# Altium footprint library STM8 Relatives.PcbLib: 36 footprints (part 3 of 3)
Each footprint in its own frame and in the unit in brackets; x right, y up, seen from the top. Pads: shape width x height; smd on the part's side, far side on the other; paste and mask are expansions set on the pad; w line width, h text height; cw(c..) or ccw(c..) is an arc to the next point about the centre after c.
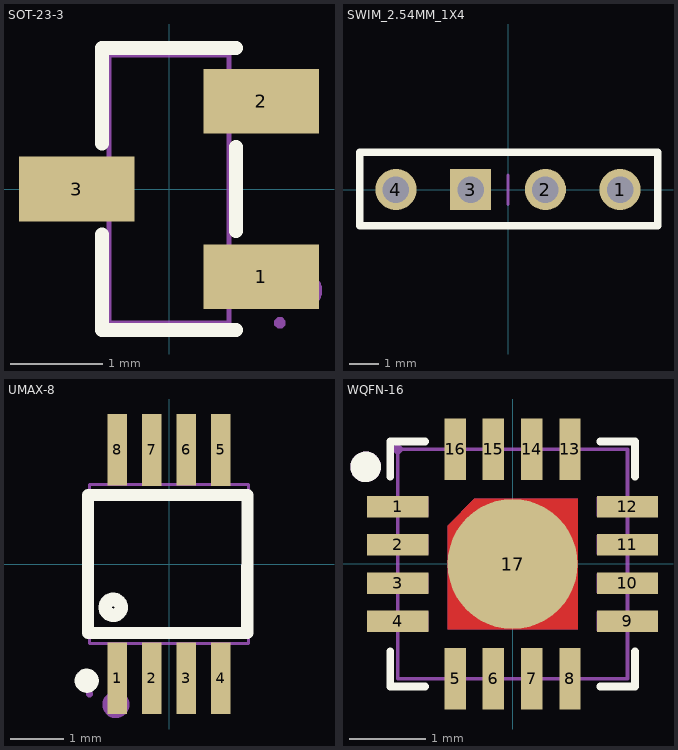
[diagram p2: the footprints below, top view; thin cyan lines are the x and y axes]

## SOT-23-3 [mm]
pads (3):
  rect 1.25x0.7 smd: 1(1,-0.95) 2(1,0.95) 3(-1,0)
Top Overlay:
  lines w0.152: -0.726,-0.495 -0.726,-1.526 0.726,-1.526 ; -0.726,0.495 -0.726,1.526 0.726,1.526 ; 0.726,-0.455 0.726,0.455
Mechanical 6:
  circle w0.2: c1.46,-1.1 r0.1
Mechanical 15:
  region: 1.26,-1.45 1.259,-1.426 1.224,-1.392 1.176,-1.392 1.141,-1.426 1.14,-1.45 1.141,-1.474 1.176,-1.508 1.224,-1.508 1.259,-1.474
  region: 0.64,0.735 0.64,1.165 0.91,1.165 0.91,0.735
  region: 0.9,0.735 0.9,1.165 1.2,1.165 1.2,0.735
  region: 0.64,-1.165 0.64,-0.735 0.91,-0.735 0.91,-1.165
  region: 0.9,-1.165 0.9,-0.735 1.2,-0.735 1.2,-1.165
  region: -0.91,-0.215 -0.91,0.215 -0.64,0.215 -0.64,-0.215
  region: -1.2,-0.215 -1.2,0.215 -0.9,0.215 -0.9,-0.215
  lines w0.051: -0.65,-1.45 -0.65,1.45 0.65,1.45 0.65,-1.45 -0.65,-1.45
3D body "SOT-23-3.step": height 1.45, standoff 0, extent -1.5,-1.575 1.5,1.525

## SWIM_2.54MM_1X4 [mm]
height 1.45
pads (4):
  round 1.4 hole 0.9: 1(3.81,0) 2(1.27,0) 4(-3.81,0)
  rect 1.4x1.4 hole 0.9: 3(-1.27,0)
Top Layer:
  text "SW IM" at -1.524,1.651 h0.76
Top Overlay:
  lines w0.254: -5.04,-1.23 5.09,-1.23 5.09,1.27 -5.04,1.27 -5.04,-1.23
Top Solder:
  text "SW IM" at -1.524,1.651 h0.76
Mechanical 15:
  lines w0.1: -0.5,1.27 0.5,1.27 ; 0,-0.5 0,0.5 ; -5.1,-1.23 5.1,-1.23 5.1,1.27 -5.1,1.27 -5.1,-1.23

## UMAX-8 [mm]
pads (8):
  rect 0.36x1.35 smd: 1(-0.975,-2.15) 2(-0.325,-2.152) 3(0.325,-2.151) 4(0.975,-2.152) 5(0.975,2.149) 6(0.325,2.152) 7(-0.325,2.149) 8(-0.975,2.152)
Top Overlay:
  circle w0.254: c-1.55,-2.2 r0.1
  circle w0.254: c-1.052,-0.817 r0.15
  lines w0.229: -1.524,-1.301 0.976,-1.301 1.476,-1.301 1.476,1.299 -1.524,1.299 -1.524,-0.551 -1.524,-1.301
Mechanical 6:
  circle w0.254: c-1,-2.65 r0.127
Mechanical 15:
  region: -1.128,-2.45 -1.128,-1.915 -0.823,-1.915 -0.823,-2.45
  region: -1.128,-1.925 -1.128,-1.49 -0.823,-1.49 -0.823,-1.925
  region: -1.128,1.915 -1.128,2.45 -0.823,2.45 -0.823,1.915
  region: -1.128,1.49 -1.128,1.925 -0.823,1.925 -0.823,1.49
  region: -0.477,-2.45 -0.477,-1.915 -0.172,-1.915 -0.172,-2.45
  region: -0.477,-1.925 -0.477,-1.49 -0.172,-1.49 -0.172,-1.925
  region: -0.477,1.915 -0.477,2.45 -0.172,2.45 -0.172,1.915
  region: -0.477,1.49 -0.477,1.925 -0.172,1.925 -0.172,1.49
  region: 0.173,-2.45 0.173,-1.915 0.478,-1.915 0.478,-2.45
  region: 0.173,-1.925 0.173,-1.49 0.478,-1.49 0.478,-1.925
  region: 0.172,1.915 0.172,2.45 0.477,2.45 0.477,1.915
  region: 0.172,1.49 0.172,1.925 0.477,1.925 0.477,1.49
  region: 0.823,-2.45 0.823,-1.915 1.128,-1.915 1.128,-2.45
  region: 0.823,-1.925 0.823,-1.49 1.128,-1.49 1.128,-1.925
  region: 0.823,1.915 0.823,2.45 1.128,2.45 1.128,1.915
  region: 0.823,1.49 0.823,1.925 1.128,1.925 1.128,1.49
  region: -1.44,-2.45 -1.441,-2.426 -1.475,-2.391 -1.524,-2.391 -1.559,-2.425 -1.56,-2.45 -1.559,-2.474 -1.525,-2.509 -1.476,-2.509 -1.441,-2.475
  lines w0.051: -1.5,-1.5 -1.5,1.5 1.5,1.5 1.5,-1.5 -1.5,-1.5
3D body "umax8 v0.step": height 1, standoff 0, extent -1.5,-2.601 1.5,2.399

## WQFN-16 [mm]
pads (17):
  rect 0.8x0.28 smd paste-100 mask+0.051: 1(-1.5,0.75) 2(-1.5,0.25) 3(-1.5,-0.25) 4(-1.5,-0.75) 9(1.5,-0.75) 10(1.5,-0.25) 11(1.5,0.25) 12(1.5,0.75)
  rect 0.28x0.8 smd paste-100 mask+0.051: 5(-0.75,-1.5) 6(-0.25,-1.5) 7(0.25,-1.5) 8(0.75,-1.5) 13(0.75,1.5) 14(0.25,1.5) 15(-0.25,1.5) 16(-0.75,1.5)
  round 1.7 smd: 17(0,0)
Top Layer:
  region: 0.85,0.85 0.85,-0.85 -0.85,-0.85 -0.85,0.5 -0.5,0.85
Top Overlay:
  circle w0.2: c-1.92,1.27 r0.1
  lines w0.102: -1.6,-1.144 -1.6,-1.6 -1.144,-1.6 ; -1.6,1.144 -1.6,1.6 -1.144,1.6 ; 1.144,-1.6 1.6,-1.6 1.6,-1.144 ; 1.144,1.6 1.6,1.6 1.6,1.144
Top Paste:
  region: 0.68,0.68 0.68,-0.68 -0.68,-0.68 -0.68,0.4 -0.4,0.68
  region: 0.89,-1.9 0.89,-1.1 0.61,-1.1 0.61,-1.9
  region: 0.39,-1.9 0.39,-1.1 0.11,-1.1 0.11,-1.9
  region: -0.11,-1.9 -0.11,-1.1 -0.39,-1.1 -0.39,-1.9
  region: -0.89,-1.1 -0.89,-1.9 -0.61,-1.9 -0.61,-1.1
  region: 1.9,-0.89 1.9,-0.61 1.1,-0.61 1.1,-0.89
  region: -1.1,-0.89 -1.1,-0.61 -1.9,-0.61 -1.9,-0.89
  region: 1.9,-0.39 1.9,-0.11 1.1,-0.11 1.1,-0.39
  region: -1.1,-0.39 -1.1,-0.11 -1.9,-0.11 -1.9,-0.39
  region: 1.9,0.11 1.9,0.39 1.1,0.39 1.1,0.11
  region: -1.1,0.11 -1.1,0.39 -1.9,0.39 -1.9,0.11
  region: 1.1,0.89 1.1,0.61 1.9,0.61 1.9,0.89
  region: -1.1,0.61 -1.1,0.89 -1.9,0.89 -1.9,0.61
  region: 0.89,1.1 0.89,1.9 0.61,1.9 0.61,1.1
  region: -0.39,1.9 -0.39,1.1 -0.11,1.1 -0.11,1.9
  region: 0.39,1.1 0.39,1.9 0.11,1.9 0.11,1.1
  region: -0.89,1.9 -0.89,1.1 -0.61,1.1 -0.61,1.9
Mechanical 6:
  circle w0.2: c-1.92,1.27 r0.1
Mechanical 15:
  region: 0.625,-1.1 0.875,-1.1 0.875,-1.5 0.625,-1.5
  region: 0.125,-1.1 0.375,-1.1 0.375,-1.5 0.125,-1.5
  region: -0.375,-1.1 -0.125,-1.1 -0.125,-1.5 -0.375,-1.5
  region: 0.85,0.85 0.85,-0.85 -0.85,-0.85 -0.85,0.5 -0.5,0.85
  region: -0.875,-1.1 -0.625,-1.1 -0.625,-1.5 -0.875,-1.5
  region: -1.1,0.875 -1.1,0.625 -1.5,0.625 -1.5,0.875
  region: -1.1,0.375 -1.1,0.125 -1.5,0.125 -1.5,0.375
  region: -1.1,-0.125 -1.1,-0.375 -1.5,-0.375 -1.5,-0.125
  region: -1.1,-0.625 -1.1,-0.875 -1.5,-0.875 -1.5,-0.625
  region: 0.875,1.1 0.625,1.1 0.625,1.5 0.875,1.5
  region: 0.375,1.1 0.125,1.1 0.125,1.5 0.375,1.5
  region: -0.125,1.1 -0.375,1.1 -0.375,1.5 -0.125,1.5
  region: -0.625,1.1 -0.875,1.1 -0.875,1.5 -0.625,1.5
  region: 1.1,0.625 1.1,0.875 1.5,0.875 1.5,0.625
  region: 1.1,0.125 1.1,0.375 1.5,0.375 1.5,0.125
  region: 1.1,-0.375 1.1,-0.125 1.5,-0.125 1.5,-0.375
  region: 1.1,-0.875 1.1,-0.625 1.5,-0.625 1.5,-0.875
  region: -1.44,1.5 -1.441,1.524 -1.476,1.558 -1.524,1.558 -1.559,1.524 -1.56,1.5 -1.559,1.476 -1.524,1.442 -1.476,1.442 -1.441,1.476
  lines w0.051: -1.5,-1.5 1.5,-1.5 1.5,1.5 -1.5,1.5 -1.5,-1.5
3D body "User Library-QFN-16_3x3.STEP": height 0.9, standoff 0, extent -1.524,-1.521 1.518,1.521